# EAGLE library part ATSAM3S1A (library squirrel)
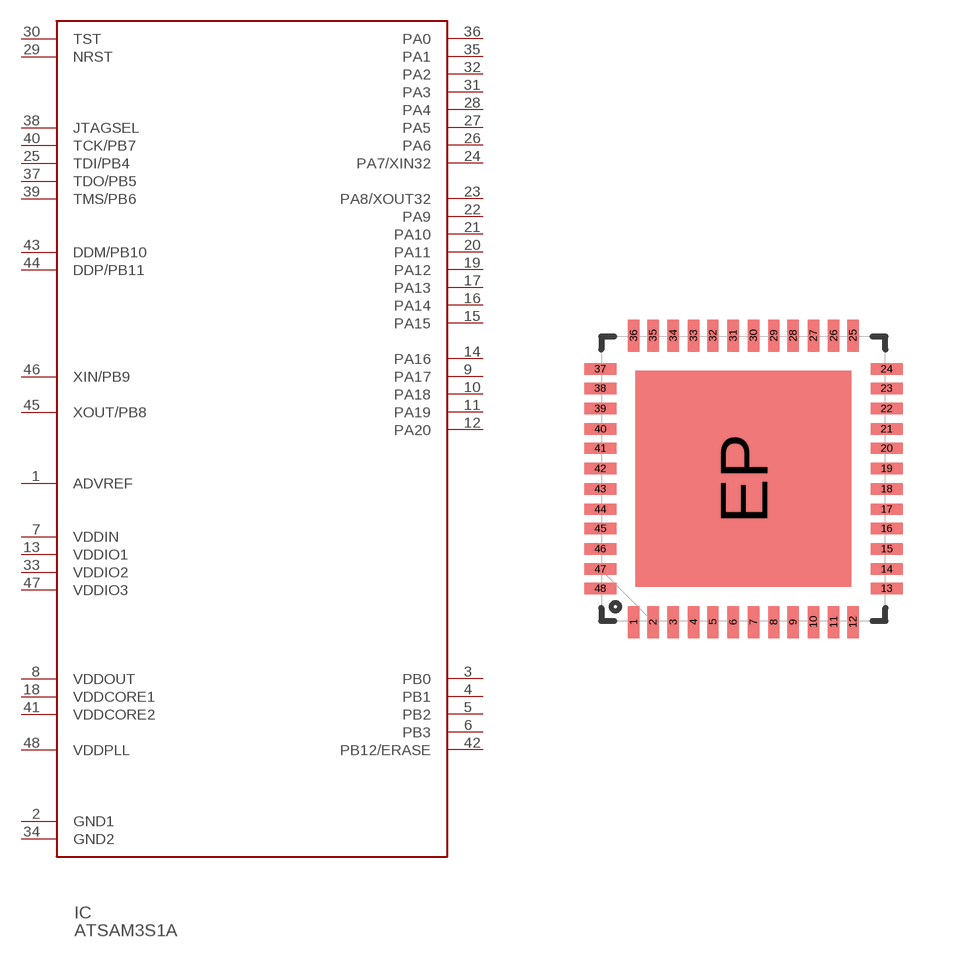
[diagram p12: symbol with the pads of QFN-48; footprint QFN-48]

Designator prefix IC

## ATSAM3S1A  [QFN-48]
1  ADVREF
2  GND1
3  PB0
4  PB1
5  PB2
6  PB3
7  VDDIN
8  VDDOUT
9  PA17
10  PA18
11  PA19
12  PA20
13  VDDIO1
14  PA16
15  PA15
16  PA14
17  PA13
18  VDDCORE1
19  PA12
20  PA11
21  PA10
22  PA9
23  PA8/XOUT32
24  PA7/XIN32
25  TDI/PB4
26  PA6
27  PA5
28  PA4
29  NRST
30  TST
31  PA3
32  PA2
33  VDDIO2
34  GND2
35  PA1
36  PA0
37  TDO/PB5
38  JTAGSEL
39  TMS/PB6
40  TCK/PB7
41  VDDCORE2
42  PB12/ERASE
43  DDM/PB10
44  DDP/PB11
45  XOUT/PB8
46  XIN/PB9
47  VDDIO3
48  VDDPLL

## Footprint QFN-48 (pad centres in mm)
smd 0.285 x 0.8: 1 -2.743,-3.581; 2 -2.261,-3.581; 3 -1.753,-3.581; 4 -1.245,-3.581; 5 -0.762,-3.581; 6 -0.254,-3.581; 7 0.254,-3.581; 8 0.762,-3.581; 9 1.245,-3.581; 10 1.753,-3.581; 11 2.261,-3.581; 12 2.743,-3.581; 25 2.743,3.581; 26 2.261,3.581; 27 1.753,3.581; 28 1.245,3.581; 29 0.762,3.581; 30 0.254,3.581; 31 -0.254,3.581; 32 -0.762,3.581; 33 -1.245,3.581; 34 -1.753,3.581; 35 -2.261,3.581; 36 -2.743,3.581
smd 0.8 x 0.285: 13 3.581,-2.743; 14 3.581,-2.261; 15 3.581,-1.753; 16 3.581,-1.245; 17 3.581,-0.762; 18 3.581,-0.254; 19 3.581,0.254; 20 3.581,0.762; 21 3.581,1.245; 22 3.581,1.753; 23 3.581,2.261; 24 3.581,2.743; 37 -3.581,2.743; 38 -3.581,2.261; 39 -3.581,1.753; 40 -3.581,1.245; 41 -3.581,0.762; 42 -3.581,0.254; 43 -3.581,-0.254; 44 -3.581,-0.762; 45 -3.581,-1.245; 46 -3.581,-1.753; 47 -3.581,-2.261; 48 -3.581,-2.743
smd 5.4 x 5.4: EP 0,0